# EAGLE library part PIC18F458 (library rnie04)
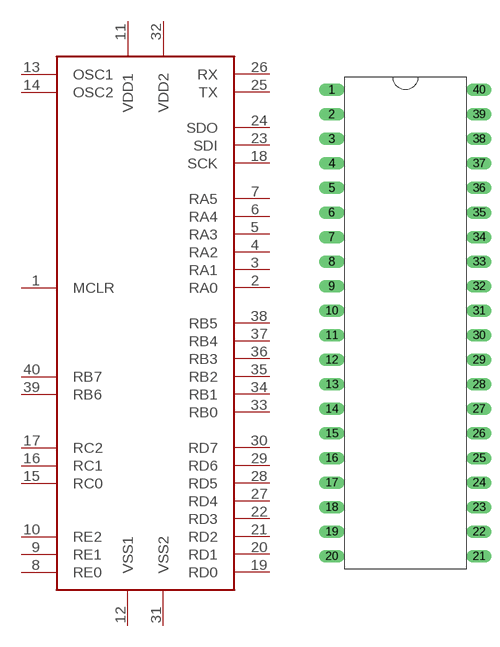
[diagram p0: symbol with the pads of DIL; footprint DIL]

Designator prefix -

## PIC18F458N  [DIL]
1  MCLR  in
2  RA0
3  RA1
4  RA2
5  RA3
6  RA4
7  RA5
8  RE0
9  RE1
10  RE2
11  VDD1  pwr
12  VSS1  pwr
13  OSC1
14  OSC2
15  RC0
16  RC1
17  RC2
18  SCK
19  RD0
20  RD1
21  RD2
22  RD3
23  SDI  in
24  SDO  out
25  TX  out
26  RX  in
27  RD4
28  RD5
29  RD6
30  RD7
31  VSS2  pwr
32  VDD2  pwr
33  RB0
34  RB1
35  RB2
36  RB3
37  RB4
38  RB5
39  RB6
40  RB7

## Footprint DIL (pad centres in mm)
drill 0.8 long: 1 -7.62,25.4; 2 -7.62,22.86; 3 -7.62,20.32; 4 -7.62,17.78; 5 -7.62,15.24; 6 -7.62,12.7; 7 -7.62,10.16; 8 -7.62,7.62; 9 -7.62,5.08; 10 -7.62,2.54; 11 -7.62,0; 12 -7.62,-2.54; 13 -7.62,-5.08; 14 -7.62,-7.62; 15 -7.62,-10.16; 16 -7.62,-12.7; 17 -7.62,-15.24; 18 -7.62,-17.78; 19 -7.62,-20.32; 20 -7.62,-22.86; 21 7.62,-22.86; 22 7.62,-20.32; 23 7.62,-17.78; 24 7.62,-15.24; 25 7.62,-12.7; 26 7.62,-10.16; 27 7.62,-7.62; 28 7.62,-5.08; 29 7.62,-2.54; 30 7.62,0; 31 7.62,2.54; 32 7.62,5.08; 33 7.62,7.62; 34 7.62,10.16; 35 7.62,12.7; 36 7.62,15.24; 37 7.62,17.78; 38 7.62,20.32; 39 7.62,22.86; 40 7.62,25.4